# EAGLE library part RGBWTF (library blinkinlabs)
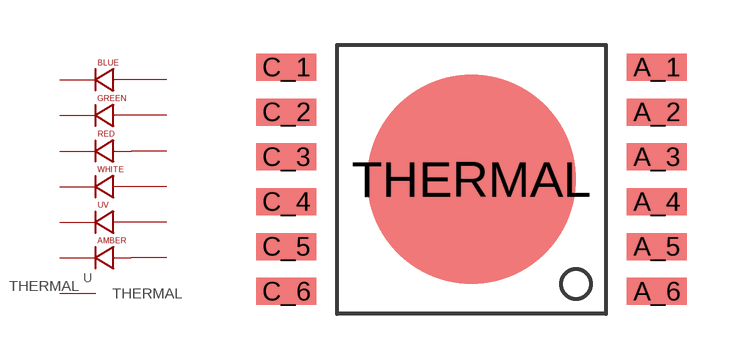
[diagram p11: symbol with the pads of RGBWTF; footprint RGBWTF]

Designator prefix -

## RGBWTF  [RGBWTF]
A_1  A_1
A_2  A_2
A_3  A_3
A_4  A_4
A_5  A_5
A_6  A_6
C_1  C_1
C_2  C_2
C_3  C_3
C_4  C_4
C_5  C_5
C_6  C_6
THERMAL  THERMAL

## Footprint RGBWTF (pad centres in mm)
smd 2 x 0.9: A_1 6.2,3.75; A_2 6.2,2.25; A_3 6.2,0.75; A_4 6.2,-0.75; A_5 6.2,-2.25; A_6 6.2,-3.75; C_1 -6.2,3.75; C_2 -6.2,2.25; C_3 -6.2,0.75; C_4 -6.2,-0.75; C_5 -6.2,-2.25; C_6 -6.2,-3.75
smd 7 x 7: THERMAL 0,0